# EAGLE library part SP720ABTG (library SP720ABTG)
LITTELFUSE - SP720ABTG - DIODE, TVS, 14CH, 30V, SOIC16 Source: Datasheet <http://www.littelfuse.com/~/media/electronics/datasheets/tvs_diode_arrays/littelfuse_tvs_diode_array_sp720_datasheet.pdf.pdf>
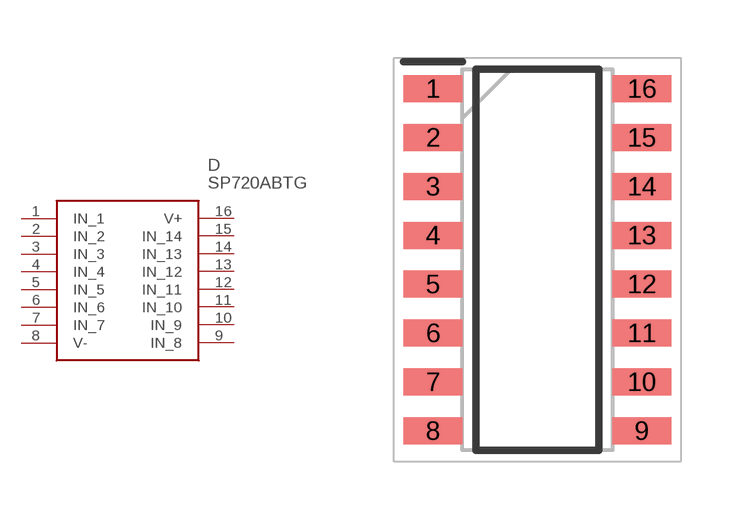
[diagram p0: symbol with the pads of SOIC127P600X175-16N; footprint SOIC127P600X175-16N]

Designator prefix D

## SP720ABTG (Description: LITTELFUSE - SP720ABTG - DIODE, TVS, 14CH, 30V, SOIC16; Height: 1.75mm; Manufacturer_Name: LITTELFUSE; Manufacturer_Part_Number: SP720ABTG; Mouser_Part_Number: 576-SP720ABTG; Mouser_Price-Stock: https://www.mouser.co.uk/ProductDetail/Littelfuse/SP720ABTG?qs=ODlIKnK5hgf4p%2FGWp9TOCQ%3D%3D)  [SOIC127P600X175-16N]
1  IN_1
2  IN_2
3  IN_3
4  IN_4
5  IN_5
6  IN_6
7  IN_7
8  V-
9  IN_8
10  IN_9
11  IN_10
12  IN_11
13  IN_12
14  IN_13
15  IN_14
16  V+

## Footprint SOIC127P600X175-16N (pad centres in mm)
SP720ABG
smd 1.525 x 0.7: 1 -2.712,4.445; 2 -2.712,3.175; 3 -2.712,1.905; 4 -2.712,0.635; 5 -2.712,-0.635; 6 -2.712,-1.905; 7 -2.712,-3.175; 8 -2.712,-4.445; 9 2.712,-4.445; 10 2.712,-3.175; 11 2.712,-1.905; 12 2.712,-0.635; 13 2.712,0.635; 14 2.712,1.905; 15 2.712,3.175; 16 2.712,4.445